# Altium footprint library ModularPayload.PcbLib: 37 footprints (part 1 of 3)
Each footprint in its own frame and in the unit in brackets; x right, y up, seen from the top. Pads: shape width x height; smd on the part's side, far side on the other; paste and mask are expansions set on the pad; w line width, h text height; cw(c..) or ccw(c..) is an arc to the next point about the centre after c.
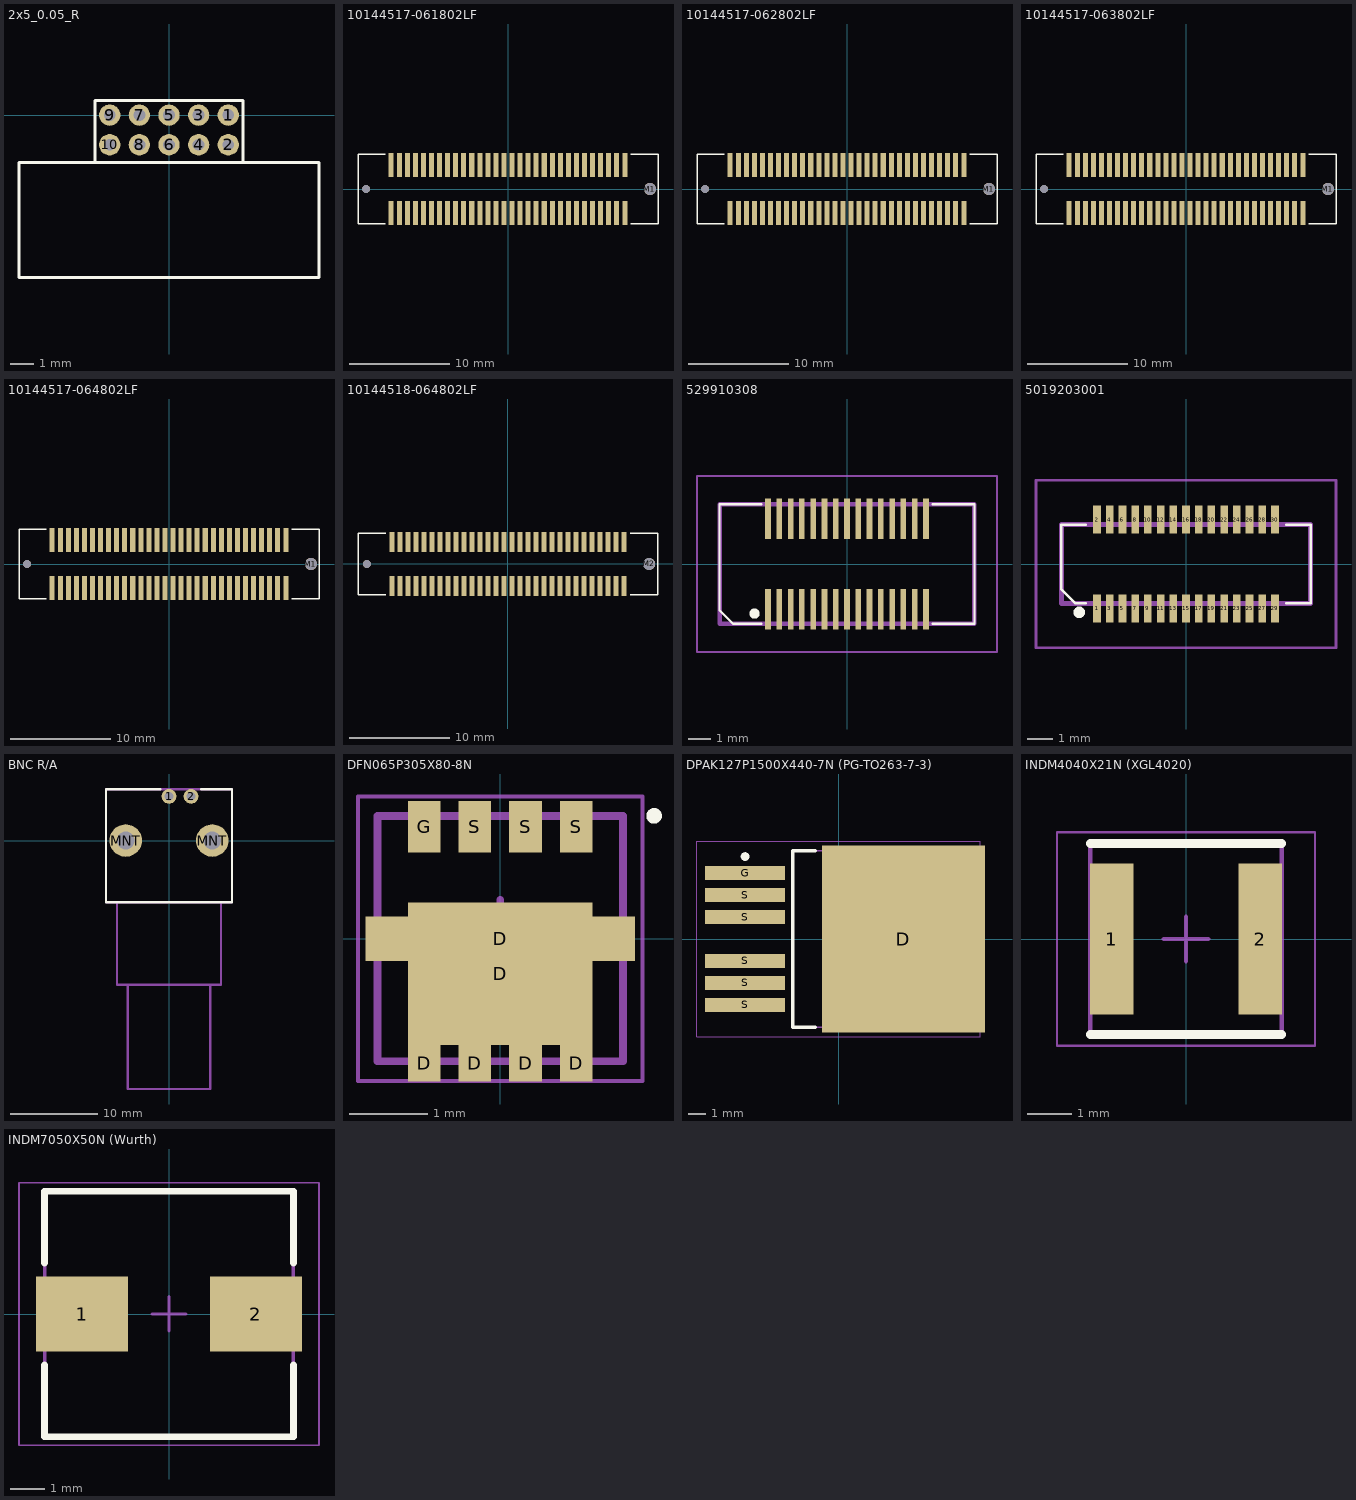
[diagram p0: the footprints below, top view; thin cyan lines are the x and y axes]

## 2x5_0.05_R [mil]
pads (10):
  round 36 hole 20: 1(100,0) 2(100,-50) 3(50,0) 4(50,-50) 5(0,0) 6(0,-50) 8(-50,-50) 9(-100,0) 10(-100,-50)
  round 36 hole 20 mask+4: 7(-50,0)
Top Overlay:
  lines w5: -125,-80 -253,-80 -253,-274.28 253,-274.28 253,-80 125,-80 ; -125,-80 125,-80 ; -125,-80 -125,25 125,25 125,-80
3D body "User Library-AMTEK - BH3CR-10GB0-U (1).step": height 197.54, standoff -93.8, extent -250,-274.28 250,8

## 10144517-061802LF [mm]
height 3.7
pads (62):
  rect 0.5x2.4 smd: 1(11.6,2.4) 2(11.6,-2.4) 3(10.8,2.4) 4(10.8,-2.4) 5(10,2.4) 6(10,-2.4) 7(9.2,2.4) 8(9.2,-2.4) 9(8.4,2.4) 10(8.4,-2.4) 11(7.6,2.4) 12(7.6,-2.4) 13(6.8,2.4) 14(6.8,-2.4) 15(6,2.4) 16(6,-2.4) 17(5.2,2.4) 18(5.2,-2.4) 19(4.4,2.4) 20(4.4,-2.4) 21(3.6,2.4) 22(3.6,-2.4) 23(2.8,2.4) 24(2.8,-2.4) 25(2,2.4) 26(2,-2.4) 27(1.2,2.4) 28(1.2,-2.4) 29(0.4,2.4) 30(0.4,-2.4) 31(-0.4,2.4) 32(-0.4,-2.4) 33(-1.2,2.4) 34(-1.2,-2.4) 35(-2,2.4) 36(-2,-2.4) 37(-2.8,2.4) 38(-2.8,-2.4) 39(-3.6,2.4) 40(-3.6,-2.4) 41(-4.4,2.4) 42(-4.4,-2.4) 43(-5.2,2.4) 44(-5.2,-2.4) 45(-6,2.4) 46(-6,-2.4) 47(-6.8,2.4) 48(-6.8,-2.4) 49(-7.6,2.4) 50(-7.6,-2.4) 51(-8.4,2.4) 52(-8.4,-2.4) 53(-9.2,2.4) 54(-9.2,-2.4) 55(-10,2.4) 56(-10,-2.4) 57(-10.8,2.4) 58(-10.8,-2.4) 59(-11.6,2.4) 60(-11.6,-2.4)
  round 1.2 hole 1.2 unplated: M1(14.1,0)
  round 0.8 hole 0.8 unplated: M2(-14.1,0)
Top Overlay:
  lines w0.127: -12.192,-3.475 -14.9,-3.475 -14.9,3.475 -12.192,3.475 ; 12.192,-3.475 14.9,-3.475 14.9,3.475 12.192,3.475
3D body "10144517-061x0xxx.stp": height 3.65, standoff -0.75, extent -14.9,-3 14.9,3

## 10144517-062802LF [mm]
height 7.7
pads (62):
  rect 0.5x2.4 smd: 1(11.6,2.4) 2(11.6,-2.4) 3(10.8,2.4) 4(10.8,-2.4) 5(10,2.4) 6(10,-2.4) 7(9.2,2.4) 8(9.2,-2.4) 9(8.4,2.4) 10(8.4,-2.4) 11(7.6,2.4) 12(7.6,-2.4) 13(6.8,2.4) 14(6.8,-2.4) 15(6,2.4) 16(6,-2.4) 17(5.2,2.4) 18(5.2,-2.4) 19(4.4,2.4) 20(4.4,-2.4) 21(3.6,2.4) 22(3.6,-2.4) 23(2.8,2.4) 24(2.8,-2.4) 25(2,2.4) 26(2,-2.4) 27(1.2,2.4) 28(1.2,-2.4) 29(0.4,2.4) 30(0.4,-2.4) 31(-0.4,2.4) 32(-0.4,-2.4) 33(-1.2,2.4) 34(-1.2,-2.4) 35(-2,2.4) 36(-2,-2.4) 37(-2.8,2.4) 38(-2.8,-2.4) 39(-3.6,2.4) 40(-3.6,-2.4) 41(-4.4,2.4) 42(-4.4,-2.4) 43(-5.2,2.4) 44(-5.2,-2.4) 45(-6,2.4) 46(-6,-2.4) 47(-6.8,2.4) 48(-6.8,-2.4) 49(-7.6,2.4) 50(-7.6,-2.4) 51(-8.4,2.4) 52(-8.4,-2.4) 53(-9.2,2.4) 54(-9.2,-2.4) 55(-10,2.4) 56(-10,-2.4) 57(-10.8,2.4) 58(-10.8,-2.4) 59(-11.6,2.4) 60(-11.6,-2.4)
  round 1.2 hole 1.2 unplated: M1(14.1,0)
  round 0.8 hole 0.8 unplated: M2(-14.1,0)
Top Overlay:
  lines w0.127: -12.192,-3.475 -14.9,-3.475 -14.9,3.475 -12.192,3.475 ; 12.192,-3.475 14.9,-3.475 14.9,3.475 12.192,3.475
3D body "10144517-062x0xxx.stp": height 7.65, standoff -0.75, extent -14.9,-3.4 14.9,3.4

## 10144517-063802LF [mm]
height 11.7
pads (62):
  rect 0.5x2.4 smd: 1(11.6,2.4) 2(11.6,-2.4) 3(10.8,2.4) 4(10.8,-2.4) 5(10,2.4) 6(10,-2.4) 7(9.2,2.4) 8(9.2,-2.4) 9(8.4,2.4) 10(8.4,-2.4) 11(7.6,2.4) 12(7.6,-2.4) 13(6.8,2.4) 14(6.8,-2.4) 15(6,2.4) 16(6,-2.4) 17(5.2,2.4) 18(5.2,-2.4) 19(4.4,2.4) 20(4.4,-2.4) 21(3.6,2.4) 22(3.6,-2.4) 23(2.8,2.4) 24(2.8,-2.4) 25(2,2.4) 26(2,-2.4) 27(1.2,2.4) 28(1.2,-2.4) 29(0.4,2.4) 30(0.4,-2.4) 31(-0.4,2.4) 32(-0.4,-2.4) 33(-1.2,2.4) 34(-1.2,-2.4) 35(-2,2.4) 36(-2,-2.4) 37(-2.8,2.4) 38(-2.8,-2.4) 39(-3.6,2.4) 40(-3.6,-2.4) 41(-4.4,2.4) 42(-4.4,-2.4) 43(-5.2,2.4) 44(-5.2,-2.4) 45(-6,2.4) 46(-6,-2.4) 47(-6.8,2.4) 48(-6.8,-2.4) 49(-7.6,2.4) 50(-7.6,-2.4) 51(-8.4,2.4) 52(-8.4,-2.4) 53(-9.2,2.4) 54(-9.2,-2.4) 55(-10,2.4) 56(-10,-2.4) 57(-10.8,2.4) 58(-10.8,-2.4) 59(-11.6,2.4) 60(-11.6,-2.4)
  round 1.2 hole 1.2 unplated: M1(14.1,0)
  round 0.8 hole 0.8 unplated: M2(-14.1,0)
Top Overlay:
  lines w0.127: -12.192,-3.475 -14.9,-3.475 -14.9,3.475 -12.192,3.475 ; 12.192,-3.475 14.9,-3.475 14.9,3.475 12.192,3.475
3D body "10144517-063x0xxx.stp": height 11.65, standoff -0.75, extent -14.9,-3.4 14.9,3.4

## 10144517-064802LF [mm]
height 15.7
pads (62):
  rect 0.5x2.4 smd: 1(11.6,2.4) 2(11.6,-2.4) 3(10.8,2.4) 4(10.8,-2.4) 5(10,2.4) 6(10,-2.4) 7(9.2,2.4) 8(9.2,-2.4) 9(8.4,2.4) 10(8.4,-2.4) 11(7.6,2.4) 12(7.6,-2.4) 13(6.8,2.4) 14(6.8,-2.4) 15(6,2.4) 16(6,-2.4) 17(5.2,2.4) 18(5.2,-2.4) 19(4.4,2.4) 20(4.4,-2.4) 21(3.6,2.4) 22(3.6,-2.4) 23(2.8,2.4) 24(2.8,-2.4) 25(2,2.4) 26(2,-2.4) 27(1.2,2.4) 28(1.2,-2.4) 29(0.4,2.4) 30(0.4,-2.4) 31(-0.4,2.4) 32(-0.4,-2.4) 33(-1.2,2.4) 34(-1.2,-2.4) 35(-2,2.4) 36(-2,-2.4) 37(-2.8,2.4) 38(-2.8,-2.4) 39(-3.6,2.4) 40(-3.6,-2.4) 41(-4.4,2.4) 42(-4.4,-2.4) 43(-5.2,2.4) 44(-5.2,-2.4) 45(-6,2.4) 46(-6,-2.4) 47(-6.8,2.4) 48(-6.8,-2.4) 49(-7.6,2.4) 50(-7.6,-2.4) 51(-8.4,2.4) 52(-8.4,-2.4) 53(-9.2,2.4) 54(-9.2,-2.4) 55(-10,2.4) 56(-10,-2.4) 57(-10.8,2.4) 58(-10.8,-2.4) 59(-11.6,2.4) 60(-11.6,-2.4)
  round 1.2 hole 1.2 unplated: M1(14.1,0)
  round 0.8 hole 0.8 unplated: M2(-14.1,0)
Top Overlay:
  lines w0.127: -12.192,-3.475 -14.9,-3.475 -14.9,3.475 -12.192,3.475 ; 12.192,-3.475 14.9,-3.475 14.9,3.475 12.192,3.475
3D body "10144517-064x0xxx.stp": height 15.65, standoff -0.75, extent -14.9,-3.4 14.9,3.4

## 10144518-064802LF [mm]
height 7.7
pads (62):
  rect 0.5x2 smd: 1(-11.6,2.2) 2(-11.6,-2.2) 3(-10.8,2.2) 4(-10.8,-2.2) 5(-10,2.2) 6(-10,-2.2) 7(-9.2,2.2) 8(-9.2,-2.2) 9(-8.4,2.2) 10(-8.4,-2.2) 11(-7.6,2.2) 12(-7.6,-2.2) 13(-6.8,2.2) 14(-6.8,-2.2) 15(-6,2.2) 16(-6,-2.2) 17(-5.2,2.2) 18(-5.2,-2.2) 19(-4.4,2.2) 20(-4.4,-2.2) 21(-3.6,2.2) 22(-3.6,-2.2) 23(-2.8,2.2) 24(-2.8,-2.2) 25(-2,2.2) 26(-2,-2.2) 27(-1.2,2.2) 28(-1.2,-2.2) 29(-0.4,2.2) 30(-0.4,-2.2) 31(0.4,2.2) 32(0.4,-2.2) 33(1.2,2.2) 34(1.2,-2.2) 35(2,2.2) 36(2,-2.2) 37(2.8,2.2) 38(2.8,-2.2) 39(3.6,2.2) 40(3.6,-2.2) 41(4.4,2.2) 42(4.4,-2.2) 43(5.2,2.2) 44(5.2,-2.2) 45(6,2.2) 46(6,-2.2) 47(6.8,2.2) 48(6.8,-2.2) 49(7.6,2.2) 50(7.6,-2.2) 51(8.4,2.2) 52(8.4,-2.2) 53(9.2,2.2) 54(9.2,-2.2) 55(10,2.2) 56(10,-2.2) 57(10.8,2.2) 58(10.8,-2.2) 59(11.6,2.2) 60(11.6,-2.2)
  round 0.8 hole 0.8 unplated: M1(-14.1,0)
  round 1.2 hole 1.2 unplated: M2(14.1,0)
Top Overlay:
  lines w0.127: -12.192,-3.075 -14.975,-3.075 -14.975,3.075 -12.192,3.075 ; 12.192,-3.075 14.975,-3.075 14.975,3.075 12.192,3.075
3D body "10144518-064x0xxx.stp": height 7.65, standoff -0.7, extent -14.9,-3 14.9,3

## 529910308 [mm]
pads (30):
  rect 0.25x1.8 smd: 1(-3.5,-2) 2(-3.5,2) 3(-3,-2) 4(-3,2) 5(-2.5,-2) 6(-2.5,2) 7(-2,-2) 8(-2,2) 9(-1.5,-2) 10(-1.5,2) 11(-1,-2) 12(-1,2) 13(-0.5,-2) 14(-0.5,2) 15(0,-2) 16(0,2) 17(0.5,-2) 18(0.5,2) 19(1,-2) 20(1,2) 21(1.5,-2) 22(1.5,2) 23(2,-2) 24(2,2) 25(2.5,-2) 26(2.5,2) 27(3,-2) 28(3,2) 29(3.5,-2) 30(3.5,2)
Top Overlay:
  circle w0.254: c-4.1,-2.2 r0.1
  lines w0.1: -3.8,-2.65 -5.05,-2.65 -5.65,-2.05 -5.65,2.65 -3.8,2.65 ; 3.8,-2.65 5.65,-2.65 5.65,2.65 3.8,2.65
Mechanical 13:
  lines w0.2: -5.65,-2.65 5.65,-2.65 5.65,2.65 -5.65,2.65 -5.65,-2.65
Mechanical 15:
  lines w0.1: -6.65,-3.9 6.65,-3.9 6.65,3.9 -6.65,3.9 -6.65,-3.9
3D body "529910308.stp": height 2.33, standoff 0.04, extent -5.65,-2.7 5.65,2.7

## 5019203001 [mm]
pads (30):
  rect 0.3x1.1 smd: 1(-3.5,-1.75) 2(-3.5,1.75) 3(-3,-1.75) 4(-3,1.75) 5(-2.5,-1.75) 6(-2.5,1.75) 7(-2,-1.75) 8(-2,1.75) 9(-1.5,-1.75) 10(-1.5,1.75) 11(-1,-1.75) 12(-1,1.75) 13(-0.5,-1.75) 14(-0.5,1.75) 15(0,-1.75) 16(0,1.75) 17(0.5,-1.75) 18(0.5,1.75) 19(1,-1.75) 20(1,1.75) 21(1.5,-1.75) 22(1.5,1.75) 23(2,-1.75) 24(2,1.75) 25(2.5,-1.75) 26(2.5,1.75) 27(3,-1.75) 28(3,1.75) 29(3.5,-1.75) 30(3.5,1.75)
Top Overlay:
  circle w0.254: c-4.2,-1.9 r0.1
  lines w0.1: -3.95,-1.55 -4.35,-1.55 -4.9,-1 -4.9,1.55 -3.95,1.55 ; 3.95,-1.55 4.9,-1.55 4.9,1.55 3.95,1.55
Mechanical 13:
  lines w0.2: -4.9,-1.55 4.9,-1.55 4.9,1.55 -4.9,1.55 -4.9,-1.55
Mechanical 15:
  lines w0.1: -5.9,-3.3 5.9,-3.3 5.9,3.3 -5.9,3.3 -5.9,-3.3
3D body "5019203001.stp": height 3.42, standoff -0.05, extent -4.9,-2.05 4.9,2.05

## BNC R/A [mm]
height 11.75
pads (4):
  round 1.7 hole 1: 1(0,5.08) 2(2.54,5.08)
  round 3.75 hole 2.05: MNT(-4.98,0) MNT(4.98,0)
Top Overlay:
  lines w0.254: -1,5.895 -7.25,5.895 -7.25,-7.095 7.25,-7.095 7.25,5.895 3.7,5.895
Mechanical 15:
  lines w0.254: -6,-7.095 -6,-16.6 6,-16.6 6,-7.095 ; -4.75,-16.6 -4.75,-28.6 4.75,-28.6 4.75,-16.6 ; -7.25,-7.095 -7.25,5.895 7.25,5.895 7.25,-7.095 -7.25,-7.095

## DFN065P305X80-8N [mm] "DFN, 8-Leads, Body 3.05x3.05mm, Pitch 0.65mm, IPC Medium Density"
height 0.8
pads (10):
  rect 0.42x0.47 smd: D(-0.975,-1.6) D(-0.325,-1.6) D(0.325,-1.6) D(0.975,-1.6)
  rect 2.37x1.83 smd: D(0,-0.45)
  rect 3.46x0.57 smd: D(0,0)
  rect 0.42x0.66 smd: G(-0.975,1.435) S(-0.325,1.435) S(0.325,1.435) S(0.975,1.435)
Top Overlay:
  circle w0.1: c1.975,1.575 r0.05
Mechanical 13:
  lines w0.1: -1.575,-1.575 1.575,-1.575 1.575,1.575 -1.575,1.575 -1.575,-1.575
Mechanical 15:
  lines w0.05: -1.825,-1.825 1.825,-1.825 1.825,1.825 -1.825,1.825 -1.825,-1.825
  lines w0.1: -0.5,0 0.5,0 ; 0,-0.5 0,0.5
3D body "DFN065P305X80-8N.step": height 0.8, standoff 0, extent -1.65,-1.575 1.65,1.7

## DPAK127P1500X440-7N (PG-TO263-7-3) [mm] "D2-PAK, 7-Pads, Body 7.82x8.46mm (max), IPC Medium Density"
height 4.4
pads (7):
  rect 9.4x10.8 smd: D(3.75,0)
  rect 4.6x0.8 smd: G(-5.4,3.81) S(-5.4,-3.81) S(-5.4,-2.54) S(-5.4,-1.27) S(-5.4,1.27) S(-5.4,2.54)
Top Overlay:
  circle w0.25: c-5.4,4.76 r0.125
  lines w0.2: -1.35,-5.1 -2.65,-5.1 -2.65,5.1 -1.35,5.1
Mechanical 13:
  lines w0.1: -2.65,-5.1 6.8,-5.1 6.8,5.1 -2.65,5.1 -2.65,-5.1
Mechanical 15:
  lines w0.05: -8.175,-5.65 8.175,-5.65 8.175,5.65 -8.175,5.65 -8.175,-5.65
  lines w0.1: -0.5,0 0.5,0 ; 0,-0.5 0,0.5
3D body "DPAK127P1500X440-7N.step": height 4.5, standoff 0, extent -7.05,-5.1 7.95,5.1

## INDM4040X21N (XGL4020) [mm] "Molded Inductor, 2-Leads, Body 4.00x4.00mm, IPC Medium Density"
height 2.1
pads (2):
  rect 0.98x3.4 smd: 1(-1.675,0) 2(1.675,0)
Top Overlay:
  lines w0.2: -2.15,-2.15 2.15,-2.15 ; -2.15,2.15 2.15,2.15
Mechanical 13:
  lines w0.1: -2.15,-2.15 -2.15,2.15 2.15,2.15 2.15,-2.15 -2.15,-2.15
Mechanical 15:
  lines w0.05: -2.9,-2.4 -2.9,2.4 2.9,2.4 2.9,-2.4 -2.9,-2.4
  lines w0.1: -0.5,0 0.5,0 ; 0,-0.5 0,0.5
3D body "INDM4040X21N (XGL4020).step": height 2.1, standoff 0, extent -2.37,-2.15 2.37,2.15

## INDM7050X50N (Wurth) [mm] "Molded Inductor, 2-Leads, Body 7.00x6.90mm, IPC Medium Density"
height 5
pads (2):
  rect 2.7x2.2 smd: 1(-2.55,0) 2(2.55,0)
Top Overlay:
  lines w0.2: -3.65,-1.5 -3.65,-3.6 3.65,-3.6 3.65,-1.5 ; -3.65,1.5 -3.65,3.6 3.65,3.6 3.65,1.5
Mechanical 13:
  lines w0.1: -3.65,-3.6 -3.65,3.6 3.65,3.6 3.65,-3.6 -3.65,-3.6
Mechanical 15:
  lines w0.05: -4.4,-3.85 -4.4,3.85 4.4,3.85 4.4,-3.85 -4.4,-3.85
  lines w0.1: -0.5,0 0.5,0 ; 0,-0.5 0,0.5
3D body "INDM7050X50N (Wurth).step": height 5, standoff 0, extent -3.87,-3.6 3.87,3.6

## M2103-3005-SS [mm]
3D body "M2103-3005-SS.x_t": height 8, standoff -4.76, extent -2.25,-2.59 2.25,2.59

## M2107-3005-SS [mm]
3D body "M2107-3005-SS.x_t": height 12, standoff -4.76, extent -2.25,-2.59 2.25,2.59

## M2111-3005-SS [mm]
3D body "M2111-3005-SS.x_t": height 16, standoff -4.76, extent -2.25,-2.59 2.25,2.59